# Altium footprint library PcbLib.PcbLib: 18 footprints (part 1 of 2)
Each footprint in its own frame and in the unit in brackets; x right, y up, seen from the top. Pads: shape width x height; smd on the part's side, far side on the other; paste and mask are expansions set on the pad; w line width, h text height; cw(c..) or ccw(c..) is an arc to the next point about the centre after c.
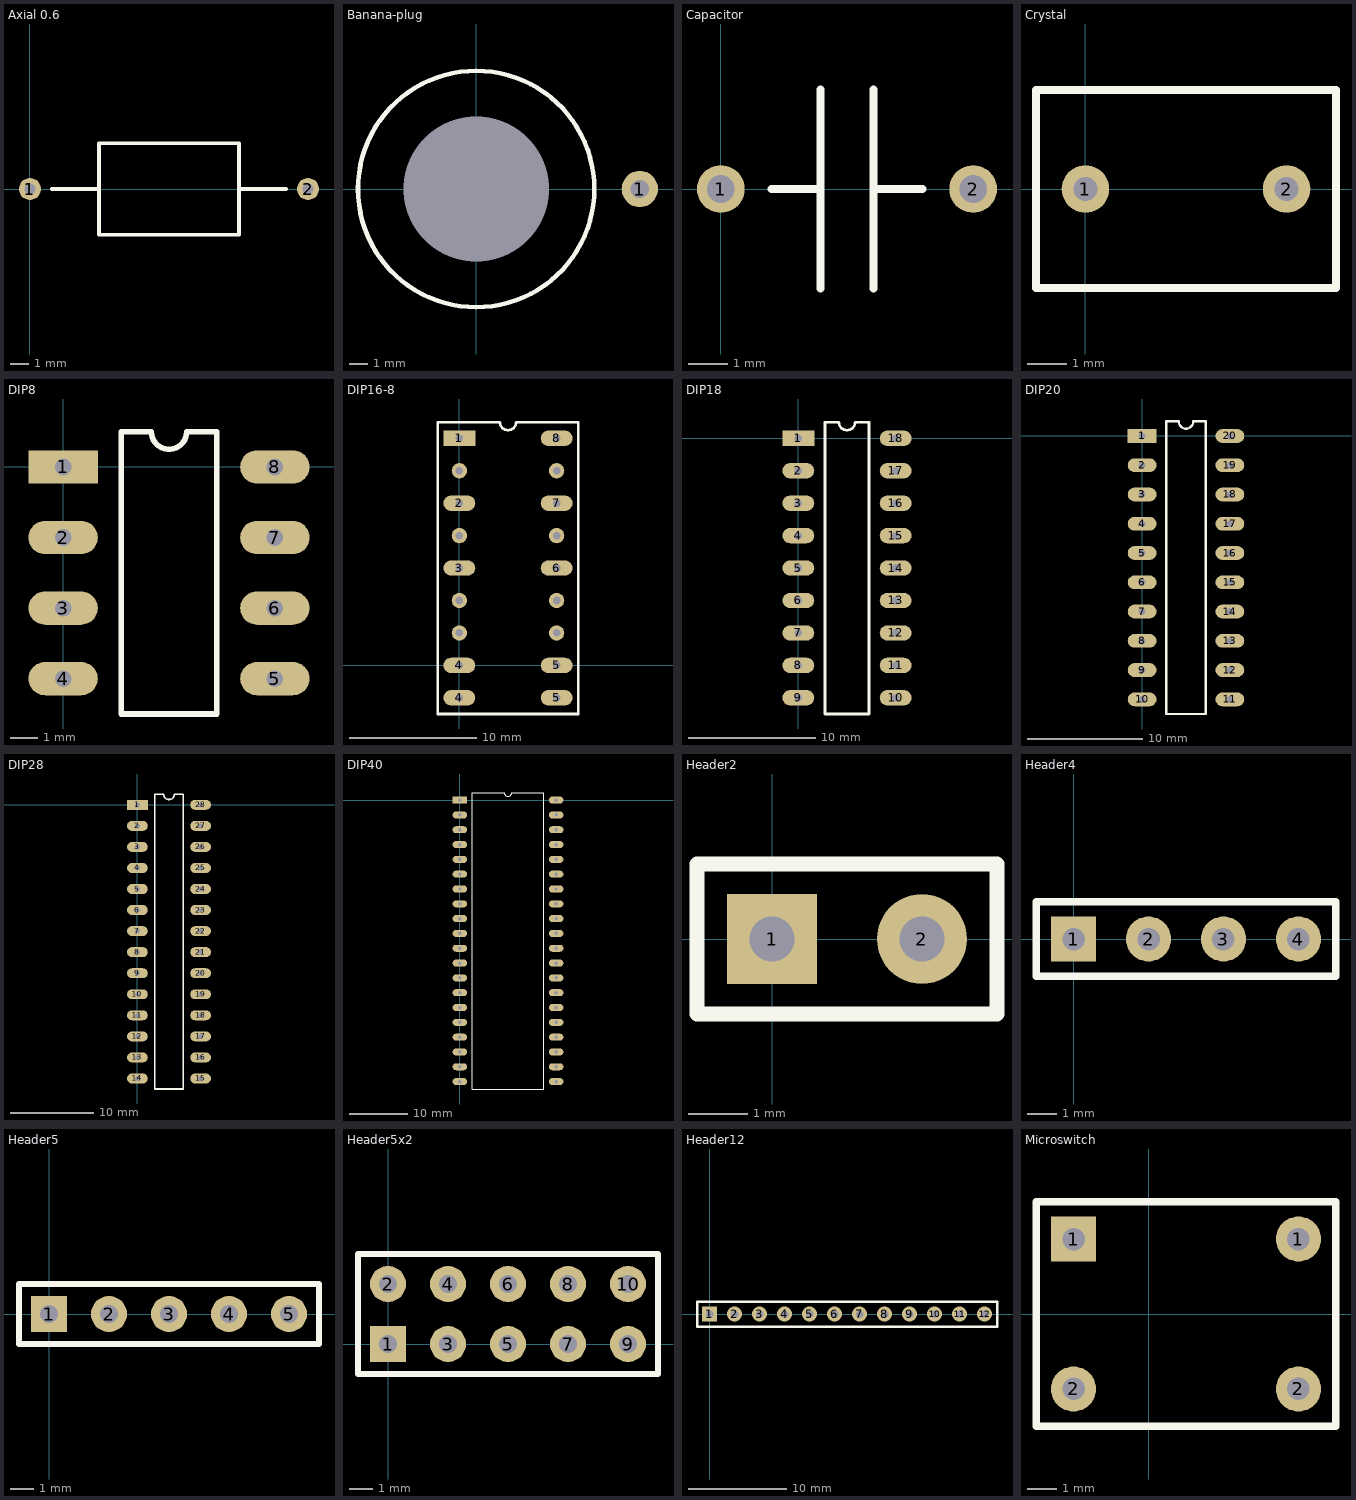
[diagram p0: the footprints below, top view; thin cyan lines are the x and y axes]

## Axial 0.6 [mm]
pads (2):
  round 1.2 hole 0.6: 1(0,0) 2(15.2,0)
Top Overlay:
  lines w0.2: 1.2,0 3.775,0 ; 11.425,0 14,0 ; 3.775,0 3.775,2.5 11.425,2.5 11.425,-2.5 3.775,-2.5 3.775,0

## Banana-plug [mm]
pads (2):
  round 2 hole 1: 1(9,0)
  round 0 hole 8: ""(0,0)
Top Overlay:
  circle w0.254: c0,0 r6.5

## Capacitor [mm]
pads (2):
  round 1.2 hole 0.7: 1(0,0) 2(6.35,0)
Top Overlay:
  lines w0.2: 1.27,0 2.505,0 ; 2.505,-2.5 2.505,0 ; 2.505,2.5 2.505,0 ; 3.845,-2.5 3.845,2.5 ; 3.845,0 5.08,0

## Crystal [mm]
pads (2):
  round 1.2 hole 0.6: 1(0,0) 2(5.08,0)
Top Overlay:
  lines w0.2: -1.25,-2.5 -1.25,2.5 6.33,2.5 6.33,-2.5 -1.25,-2.5

## DIP8 [mm]
pads (8):
  rect 2.5x1.2 hole 0.6: 1(0,0)
  oval 2.5x1.2 hole 0.6: 2(0,-2.54) 3(0,-5.08) 4(0,-7.62) 5(7.62,-7.62) 6(7.62,-5.08) 7(7.62,-2.54) 8(7.62,0)
Top Overlay:
  lines w0.2: 2.085,-8.89 5.535,-8.89 5.535,1.27 4.445,1.27 cw(c3.81,1.27) 3.175,1.27 2.085,1.27 2.085,-8.89

## DIP16-8 [mm]
pads (18):
  rect 2.5x1.2 hole 0.6: 1(0,17.78)
  oval 2.5x1.2 hole 0.6: 2(0,12.7) 3(0,7.62) 4(0,-2.54) 4(0,0) 5(7.62,-2.54) 5(7.62,0) 6(7.62,7.62) 7(7.62,12.7) 8(7.62,17.78)
  round 1.2 hole 0.6: ""(0,2.54) ""(0,5.08) ""(0,10.16) ""(0,15.24) ""(7.62,2.54) ""(7.62,5.08) ""(7.62,10.16) ""(7.62,15.24)
Top Overlay:
  lines w0.2: -1.69,-3.81 9.31,-3.81 9.31,19.05 4.445,19.05 cw(c3.81,19.05) 3.175,19.05 -1.69,19.05 -1.69,-3.81

## DIP18 [mm]
pads (18):
  rect 2.5x1.2 hole 0.6: 1(0,0)
  oval 2.5x1.2 hole 0.6: 2(0,-2.54) 3(0,-5.08) 4(0,-7.62) 5(0,-10.16) 6(0,-12.7) 7(0,-15.24) 8(0,-17.78) 9(0,-20.32) 10(7.62,-20.32) 11(7.62,-17.78) 12(7.62,-15.24) 13(7.62,-12.7) 14(7.62,-10.16) 15(7.62,-7.62) 16(7.62,-5.08) 17(7.62,-2.54) 18(7.62,0)
Top Overlay:
  lines w0.2: 2.085,-21.59 2.085,1.27 3.175,1.27 ccw(c3.81,1.27) 4.445,1.27 5.535,1.27 5.535,-21.59 2.085,-21.59

## DIP20 [mm]
pads (20):
  rect 2.5x1.2 hole 0.6: 1(0,0)
  oval 2.5x1.2 hole 0.6: 2(0,-2.54) 3(0,-5.08) 4(0,-7.62) 5(0,-10.16) 6(0,-12.7) 7(0,-15.24) 8(0,-17.78) 9(0,-20.32) 10(0,-22.86) 11(7.62,-22.86) 12(7.62,-20.32) 13(7.62,-17.78) 14(7.62,-15.24) 15(7.62,-12.7) 16(7.62,-10.16) 17(7.62,-7.62) 18(7.62,-5.08) 19(7.62,-2.54) 20(7.62,0)
Top Overlay:
  lines w0.2: 2.085,-24.13 2.085,1.27 3.175,1.27 ccw(c3.81,1.27) 4.445,1.27 5.535,1.27 5.535,-24.13 2.085,-24.13

## DIP28 [mm]
pads (28):
  rect 2.5x1.2 hole 0.6: 1(0,0)
  oval 2.5x1.2 hole 0.6: 2(0,-2.54) 3(0,-5.08) 4(0,-7.62) 5(0,-10.16) 6(0,-12.7) 7(0,-15.24) 8(0,-17.78) 9(0,-20.32) 10(0,-22.86) 11(0,-25.4) 12(0,-27.94) 13(0,-30.48) 14(0,-33.02) 15(7.62,-33.02) 16(7.62,-30.48) 17(7.62,-27.94) 18(7.62,-25.4) 19(7.62,-22.86) 20(7.62,-20.32) 21(7.62,-17.78) 22(7.62,-15.24) 23(7.62,-12.7) 24(7.62,-10.16) 25(7.62,-7.62) 26(7.62,-5.08) 27(7.62,-2.54) 28(7.62,0)
Top Overlay:
  lines w0.2: 2.085,-34.29 2.085,1.27 3.175,1.27 ccw(c3.81,1.27) 4.445,1.27 5.535,1.27 5.535,-34.29 2.085,-34.29

## DIP40 [mm]
pads (40):
  rect 2.5x1.2 hole 0.6: 1(0,0)
  oval 2.5x1.2 hole 0.6: 2(0,-2.54) 3(0,-5.08) 4(0,-7.62) 5(0,-10.16) 6(0,-12.7) 7(0,-15.24) 8(0,-17.78) 9(0,-20.32) 10(0,-22.86) 11(0,-25.4) 12(0,-27.94) 13(0,-30.48) 14(0,-33.02) 15(0,-35.56) 16(0,-38.1) 17(0,-40.64) 18(0,-43.18) 19(0,-45.72) 20(0,-48.26) 21(16.5,-48.26) 22(16.5,-45.72) 23(16.5,-43.18) 24(16.5,-40.64) 25(16.5,-38.1) 26(16.5,-35.56) 27(16.5,-33.02) 28(16.5,-30.48) 29(16.5,-27.94) 30(16.5,-25.4) 31(16.5,-22.86) 32(16.5,-20.32) 33(16.5,-17.78) 34(16.5,-15.24) 35(16.5,-12.7) 36(16.5,-10.16) 37(16.5,-7.62) 38(16.5,-5.08) 39(16.5,-2.54) 40(16.5,0)
Top Overlay:
  lines w0.2: 2.085,-49.53 14.415,-49.53 14.415,1.27 8.885,1.27 cw(c8.25,1.27) 7.615,1.27 2.085,1.27 2.085,-49.53

## Header2 [mil]
pads (2):
  rect 60x60 hole 30: 1(0,0)
  round 60 hole 30: 2(100,0)
Top Overlay:
  lines w10: -50,-50 -50,50 150,50 150,-50 -50,-50

## Header4 [mil]
pads (4):
  rect 60x60 hole 30: 1(0,0)
  round 60 hole 30: 2(100,0) 3(200,0) 4(300,0)
Top Overlay:
  lines w10: -50,-50 350,-50 350,50 -50,50 -50,-50

## Header5 [mil]
pads (5):
  rect 60x60 hole 30: 1(0,0)
  round 60 hole 30: 2(100,0) 3(200,0) 4(300,0) 5(400,0)
Top Overlay:
  lines w10: -50,-50 450,-50 450,50 -50,50 -50,-50

## Header5x2 [mil]
pads (10):
  rect 60x60 hole 30: 1(0,0)
  round 60 hole 30: 2(0,100) 3(100,0) 4(100,100) 5(200,0) 6(200,100) 7(300,0) 8(300,100) 9(400,0) 10(400,100)
Top Overlay:
  lines w10: -50,-50 450,-50 450,150 -50,150 -50,-50

## Header12 [mil]
pads (12):
  rect 60x60 hole 30: 1(0,0)
  round 60 hole 30: 2(100,0) 3(200,0) 4(300,0) 5(400,0) 6(500,0) 7(600,0) 8(700,0) 9(800,0) 10(900,0) 11(1000,0) 12(1100,0)
Top Overlay:
  lines w10: -50,-50 1150,-50 1150,50 -50,50 -50,-50

## Microswitch [mil]
pads (4):
  rect 60x60 hole 30: 1(-100,100)
  round 60 hole 30: 1(200,100) 2(-100,-100) 2(200,-100)
Top Overlay:
  lines w10: -150,-150 250,-150 250,150 -150,150 -150,-150